# Altium schematic symbol library ADCMP605.SchLib: 1 symbol
Pins are listed as number, name and electrical type; pins without a type are passive.

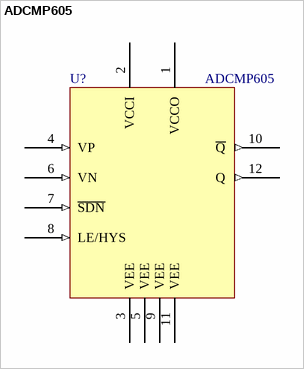
[diagram p0: symbol ADCMP605]

## ADCMP605
designator U?
pins: 1 VCCO (power), 2 VCCI (power), 3 VEE (power), 4 VP (in), 5 VEE (power), 6 VN (in), 7 ~{SDN} (in), 8 LE/HYS (in), 9 VEE (power), 10 ~{Q} (out), 11 VEE (power), 12 Q (out)